# Altium integrated library ON Semi Peripheral Clock Generator.IntLib: 38 symbols
Pins are listed as number, name and electrical type; pins without a type are passive.

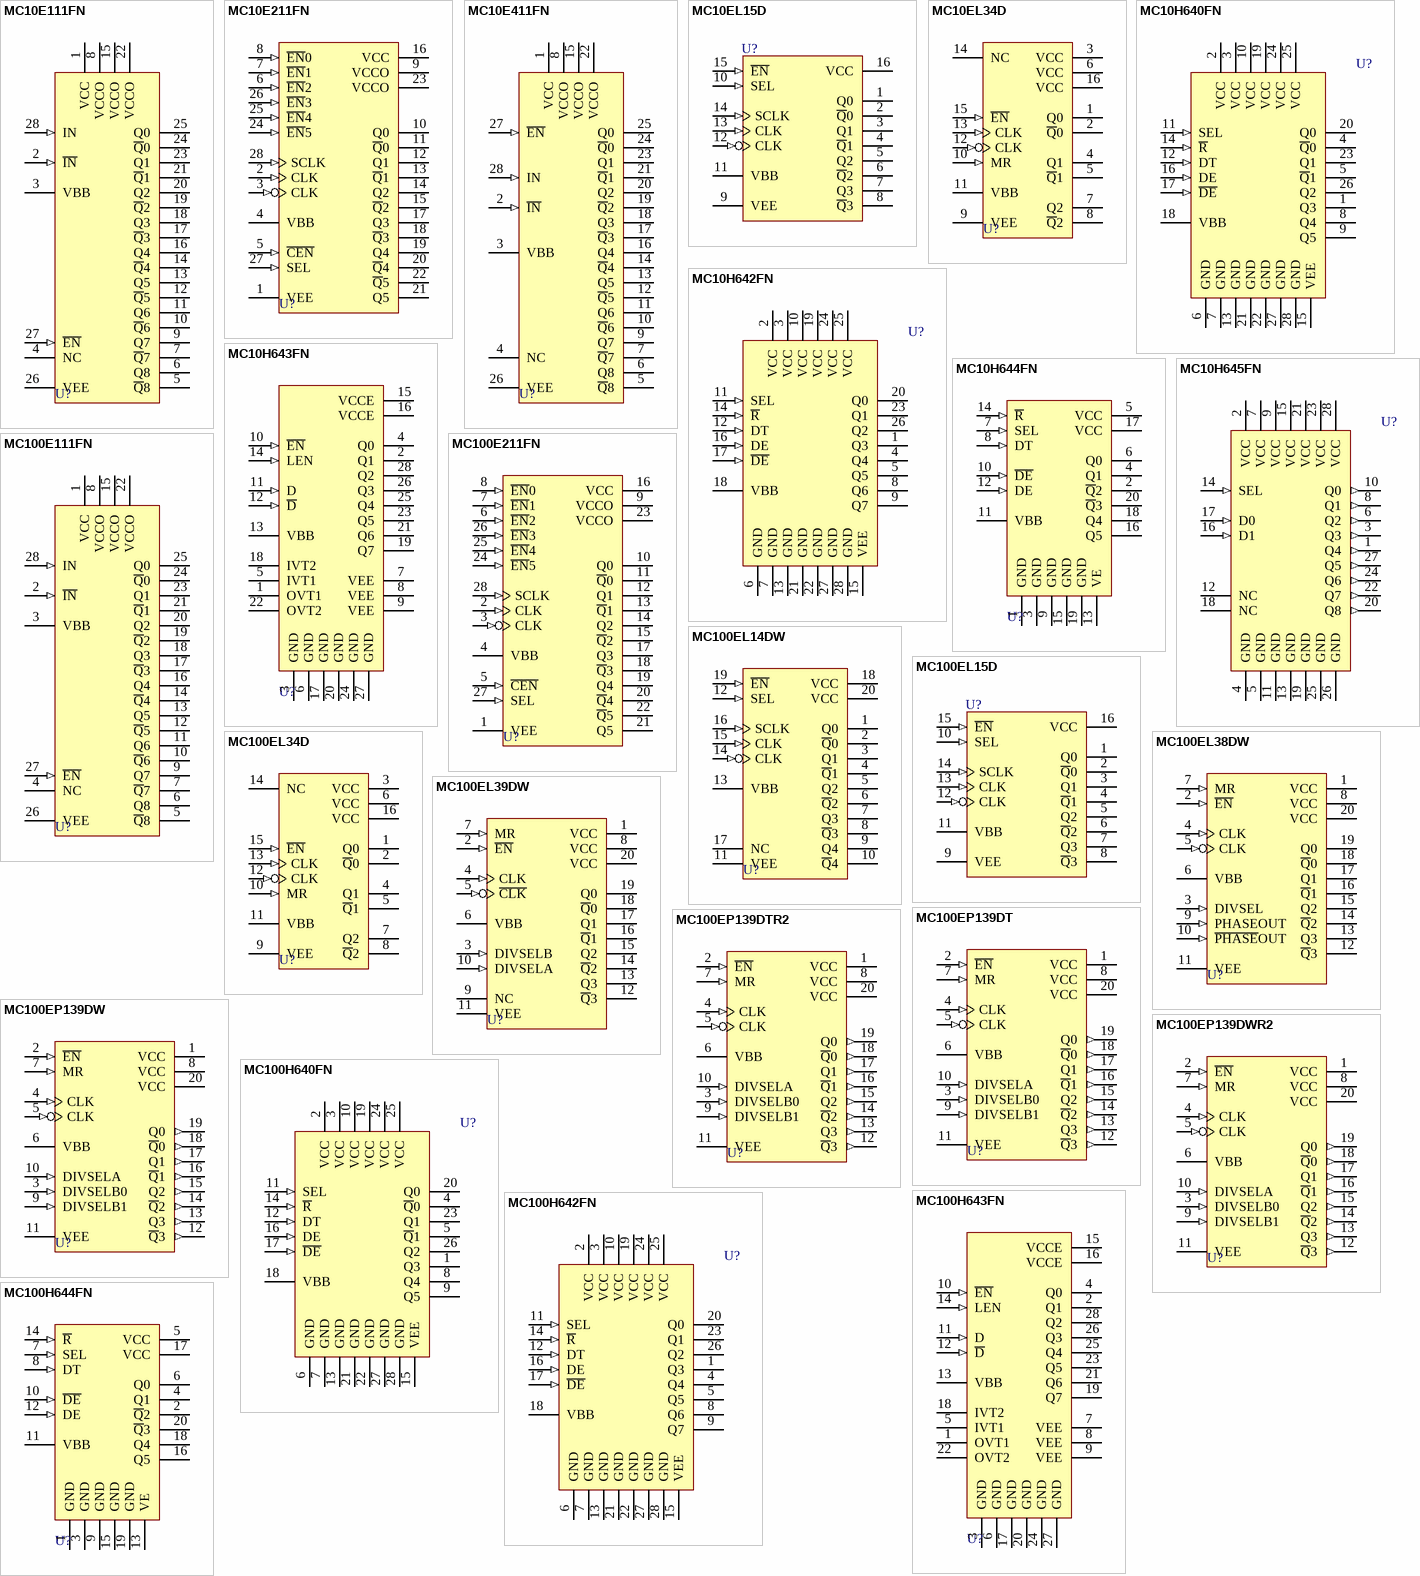
[diagram p0: symbols MC10E111FN to MC100H644FN]

## MC10E111FN
designator U?
1:9 Differential Clock Driver; Published: 15-Apr-2002; LatestRevisionDate: 13-Apr-2006; LatestRevisionNote: IPC-7351 Footprint Added.; DatasheetVersion: 1996; PackageVersion: Feb-2000; PackageReference: 776-02; Publisher: Altium Limited; PackageDescription: 28-Pin Leaded Chip Carrier 1.27 mm Pitch; ComponentLink1Description: Manufacturer Link; ComponentLink1URL: http://www.onsemi.com/; ComponentLink2Description: Datasheet; ComponentLink2URL: http://www.onsemi.com/pub/Collateral/MC10E111-D.PDF
footprint 776-02_N (Leaded Chip Carrier, 28-Leads, Body 11.5x11.5mm, Pitch 1.27mm, IPC Medium Density)
footprint 776-02_L (Leaded Chip Carrier, 28-Leads, Body 11.5x11.5mm, Pitch 1.27mm, IPC High Density)
footprint 776-02_M (Leaded Chip Carrier, 28-Leads, Body 11.5x11.5mm, Pitch 1.27mm, IPC Low Density)
pins: 1 VCC (power), 2 ~{IN} (in), 3 VBB (power), 4 NC, 5 ~{Q}8 (oe), 6 Q8 (oe), 7 ~{Q}7 (oe), 8 VCCO (power), 9 Q7 (oe), 10 ~{Q}6 (oe), 11 Q6 (oe), 12 ~{Q}5 (oe), 13 Q5 (oe), 14 ~{Q}4 (oe), 15 VCCO (power), 16 Q4 (oe), 17 ~{Q}3 (oe), 18 Q3 (oe), 19 ~{Q}2 (oe), 20 Q2 (oe), 21 ~{Q}1 (oe), 22 VCCO (power), 23 Q1 (oe), 24 ~{Q}0 (oe), 25 Q0 (oe), 26 VEE (power), 27 ~{EN} (in), 28 IN (in)

## MC10E211FN
designator U?
1:6 Differential Clock Distribution Chip; Published: 15-Apr-2002; LatestRevisionDate: 13-Apr-2006; LatestRevisionNote: IPC-7351 Footprint Added.; DatasheetVersion: 1996; PackageVersion: Feb-2000; PackageReference: 776-02; Publisher: Altium Limited; PackageDescription: 28-Pin Leaded Chip Carrier 1.27 mm Pitch; ComponentLink1Description: Manufacturer Link; ComponentLink1URL: http://www.onsemi.com/; ComponentLink2Description: Datasheet; ComponentLink2URL: http://www.onsemi.com/pub/Collateral/MC10E211-D.PDF
footprint 776-02_N (Leaded Chip Carrier, 28-Leads, Body 11.5x11.5mm, Pitch 1.27mm, IPC Medium Density)
footprint 776-02_L (Leaded Chip Carrier, 28-Leads, Body 11.5x11.5mm, Pitch 1.27mm, IPC High Density)
footprint 776-02_M (Leaded Chip Carrier, 28-Leads, Body 11.5x11.5mm, Pitch 1.27mm, IPC Low Density)
pins: 1 VEE (power), 2 CLK (in), 3 CLK (in), 4 VBB (power), 5 ~{CEN} (in), 6 ~{EN}2 (in), 7 ~{EN}1 (in), 8 ~{EN}0 (in), 9 VCCO (power), 10 Q0 (oe), 11 ~{Q}0 (oe), 12 Q1 (oe), 13 ~{Q}1 (oe), 14 Q2 (oe), 15 ~{Q}2 (oe), 16 VCC (power), 17 Q3 (oe), 18 ~{Q}3 (oe), 19 Q4 (oe), 20 ~{Q}4 (oe), 21 Q5 (oe), 22 ~{Q}5 (oe), 23 VCCO (power), 24 ~{EN}5 (in), 25 ~{EN}4 (in), 26 ~{EN}3 (in), 27 SEL (in), 28 SCLK (in)

## MC10E411FN
designator U?
5V ECL 1:9 Differential PECL/NECL RAMBus Clock Buffer; Published: 15-Apr-2002; LatestRevisionDate: 13-Apr-2006; LatestRevisionNote: IPC-7351 Footprint Added.; DatasheetVersion: Apr-2001; PackageVersion: Feb-2000; PackageReference: 776-02; Publisher: Altium Limited; PackageDescription: 28-Pin Leaded Chip Carrier 1.27 mm Pitch; ComponentLink1Description: Manufacturer Link; ComponentLink1URL: http://www.onsemi.com/; ComponentLink2Description: Datasheet; ComponentLink2URL: http://www.onsemi.com/pub/Collateral/MC10E411-D.PDF
footprint 776-02_N (Leaded Chip Carrier, 28-Leads, Body 11.5x11.5mm, Pitch 1.27mm, IPC Medium Density)
footprint 776-02_L (Leaded Chip Carrier, 28-Leads, Body 11.5x11.5mm, Pitch 1.27mm, IPC High Density)
footprint 776-02_M (Leaded Chip Carrier, 28-Leads, Body 11.5x11.5mm, Pitch 1.27mm, IPC Low Density)
pins: 1 VCC (power), 2 ~{IN} (in), 3 VBB (power), 4 NC, 5 ~{Q}8 (oe), 6 Q8 (oe), 7 ~{Q}7 (oe), 8 VCCO (power), 9 Q7 (oe), 10 ~{Q}6 (oe), 11 Q6 (oe), 12 ~{Q}5 (oe), 13 Q5 (oe), 14 ~{Q}4 (oe), 15 VCCO (power), 16 Q4 (oe), 17 ~{Q}3 (oe), 18 Q3 (oe), 19 ~{Q}2 (oe), 20 Q2 (oe), 21 ~{Q}1 (oe), 22 VCCO (power), 23 Q1 (oe), 24 ~{Q}0 (oe), 25 Q0 (oe), 26 VEE (power), 27 ~{EN} (in), 28 IN (in)

## MC10EL15D
designator U?
1:4 Clock Distribution Chip; Published: 15-Apr-2002; LatestRevisionDate: 13-Apr-2006; LatestRevisionNote: IPC-7351 Footprint Added.; DatasheetVersion: 1996; PackageVersion: Oct-1999; PackageReference: 751B-05; Publisher: Altium Limited; PackageDescription: 16-Pin Small Outline Integrated Circuit 1.27 mm Pitch; Code_JEDEC: MS-012-AC; Code_IPC: SOIC127P600-16; ComponentLink1Description: Manufacturer Link; ComponentLink1URL: http://www.onsemi.com/; ComponentLink2Description: Datasheet; ComponentLink2URL: http://www.onsemi.com/pub/Collateral/MC10EL15-D.PDF
footprint 751B-05_N (SOIC, 16-Leads, Body 9.9x3.9mm, Pitch 1.27mm, IPC Medium Density)
footprint 751B-05_L (SOIC, 16-Leads, Body 9.9x3.9mm, Pitch 1.27mm, IPC High Density)
footprint 751B-05_M (SOIC, 16-Leads, Body 9.9x3.9mm, Pitch 1.27mm, IPC Low Density)
pins: 1 Q0 (oe), 2 ~{Q}0 (oe), 3 Q1 (oe), 4 ~{Q}1 (oe), 5 Q2 (oe), 6 ~{Q}2 (oe), 7 Q3 (oe), 8 ~{Q}3 (oe), 9 VEE (power), 10 SEL (in), 11 VBB (power), 12 CLK (in), 13 CLK (in), 14 SCLK (in), 15 ~{EN} (in), 16 VCC (power)

## MC10EL34D
designator U?
Divide by 2,4,8 Clock Generation Chip; Published: 15-Apr-2002; LatestRevisionDate: 13-Apr-2006; LatestRevisionNote: IPC-7351 Footprint Added.; DatasheetVersion: 1996; PackageVersion: Oct-1999; PackageReference: 751B-05; Publisher: Altium Limited; PackageDescription: 16-Pin Small Outline Integrated Circuit 1.27 mm Pitch; Code_JEDEC: MS-012-AC; Code_IPC: SOIC127P600-16; ComponentLink1Description: Manufacturer Link; ComponentLink1URL: http://www.onsemi.com/; ComponentLink2Description: Datasheet; ComponentLink2URL: http://www.onsemi.com/pub/Collateral/MC10EL34-D.PDF
footprint 751B-05_N (SOIC, 16-Leads, Body 9.9x3.9mm, Pitch 1.27mm, IPC Medium Density)
footprint 751B-05_L (SOIC, 16-Leads, Body 9.9x3.9mm, Pitch 1.27mm, IPC High Density)
footprint 751B-05_M (SOIC, 16-Leads, Body 9.9x3.9mm, Pitch 1.27mm, IPC Low Density)
pins: 1 Q0 (oe), 2 ~{Q}0 (oe), 3 VCC (power), 4 Q1 (oe), 5 ~{Q}1 (oe), 6 VCC (power), 7 Q2 (oe), 8 ~{Q}2 (oe), 9 VEE (power), 10 MR (in), 11 VBB (power), 12 CLK (in), 13 CLK (in), 14 NC, 15 ~{EN} (in), 16 VCC (power)

## MC10H640FN
designator U?
PECL/TTL Clock Driver; Published: 15-Apr-2002; LatestRevisionDate: 13-Apr-2006; LatestRevisionNote: IPC-7351 Footprint Added.; DatasheetVersion: 1996; PackageVersion: Feb-2000; PackageReference: 776-02; Publisher: Altium Limited; PackageDescription: 28-Pin Leaded Chip Carrier 1.27 mm Pitch; ComponentLink1Description: Manufacturer Link; ComponentLink1URL: http://www.onsemi.com/; ComponentLink2Description: Datasheet; ComponentLink2URL: http://www.onsemi.com/pub/Collateral/MC10H640-D.PDF
footprint 776-02_N (Leaded Chip Carrier, 28-Leads, Body 11.5x11.5mm, Pitch 1.27mm, IPC Medium Density)
footprint 776-02_L (Leaded Chip Carrier, 28-Leads, Body 11.5x11.5mm, Pitch 1.27mm, IPC High Density)
footprint 776-02_M (Leaded Chip Carrier, 28-Leads, Body 11.5x11.5mm, Pitch 1.27mm, IPC Low Density)
pins: 1 Q3 (oe), 2 VCC (power), 3 VCC (power), 4 ~{Q}0 (oe), 5 ~{Q}1 (oe), 6 GND (power), 7 GND (power), 8 Q4 (oe), 9 Q5 (oe), 10 VCC (power), 11 SEL (in), 12 DT (in), 13 GND (power), 14 ~{R} (in), 15 VEE (power), 16 DE (in), 17 ~{DE} (in), 18 VBB (power), 19 VCC (power), 20 Q0 (oe), 21 GND (power), 22 GND (power), 23 Q1 (oe), 24 VCC (power), 25 VCC (power), 26 Q2 (oe), 27 GND (power), 28 GND (power)

## MC10H642FN
designator U?
PECL/TTL Clock Driver; Published: 15-Apr-2002; LatestRevisionDate: 13-Apr-2006; LatestRevisionNote: IPC-7351 Footprint Added.; DatasheetVersion: 1996; PackageVersion: Feb-2000; PackageReference: 776-02; Publisher: Altium Limited; PackageDescription: 28-Pin Leaded Chip Carrier 1.27 mm Pitch; ComponentLink1Description: Manufacturer Link; ComponentLink1URL: http://www.onsemi.com/; ComponentLink2Description: Datasheet; ComponentLink2URL: http://www.onsemi.com/pub/Collateral/MC10H642-D.PDF
footprint 776-02_N (Leaded Chip Carrier, 28-Leads, Body 11.5x11.5mm, Pitch 1.27mm, IPC Medium Density)
footprint 776-02_L (Leaded Chip Carrier, 28-Leads, Body 11.5x11.5mm, Pitch 1.27mm, IPC High Density)
footprint 776-02_M (Leaded Chip Carrier, 28-Leads, Body 11.5x11.5mm, Pitch 1.27mm, IPC Low Density)
pins: 1 Q3 (oe), 2 VCC (power), 3 VCC (power), 4 Q4 (oe), 5 Q5 (oe), 6 GND (power), 7 GND (power), 8 Q6 (oe), 9 Q7 (oe), 10 VCC (power), 11 SEL (in), 12 DT (in), 13 GND (power), 14 ~{R} (in), 15 VEE (power), 16 DE (in), 17 ~{DE} (in), 18 VBB (power), 19 VCC (power), 20 Q0 (oe), 21 GND (power), 22 GND (power), 23 Q1 (oe), 24 VCC (power), 25 VCC (power), 26 Q2 (oe), 27 GND (power), 28 GND (power)

## MC10H643FN
designator U?
Dual Supply ECL-TTL 1:8 Clock Driver; Published: 15-Apr-2002; LatestRevisionDate: 13-Apr-2006; LatestRevisionNote: IPC-7351 Footprint Added.; DatasheetVersion: 1996; PackageVersion: Feb-2000; PackageReference: 776-02; Publisher: Altium Limited; PackageDescription: 28-Pin Leaded Chip Carrier 1.27 mm Pitch; ComponentLink1Description: Manufacturer Link; ComponentLink1URL: http://www.onsemi.com/; ComponentLink2Description: Datasheet; ComponentLink2URL: http://www.onsemi.com/pub/Collateral/MC10H643-D.PDF
footprint 776-02_N (Leaded Chip Carrier, 28-Leads, Body 11.5x11.5mm, Pitch 1.27mm, IPC Medium Density)
footprint 776-02_L (Leaded Chip Carrier, 28-Leads, Body 11.5x11.5mm, Pitch 1.27mm, IPC High Density)
footprint 776-02_M (Leaded Chip Carrier, 28-Leads, Body 11.5x11.5mm, Pitch 1.27mm, IPC Low Density)
pins: 1 OVT1 (power), 2 Q1 (oe), 3 GND (power), 4 Q0 (oe), 5 IVT1 (power), 6 GND (power), 7 VEE (power), 8 VEE (power), 9 VEE (power), 10 ~{EN} (in), 11 D (in), 12 ~{D} (in), 13 VBB (power), 14 LEN (in), 15 VCCE (power), 16 VCCE (power), 17 GND (power), 18 IVT2 (power), 19 Q7 (oe), 20 GND (power), 21 Q6 (oe), 22 OVT2 (power), 23 Q5 (oe), 24 GND (power), 25 Q4 (oe), 26 Q3 (oe), 27 GND (power), 28 Q2 (oe)

## MC10H644FN
designator U?
PECL/TTL Clock Driver; ComponentAvailability: Not for New Design; Published: 15-Apr-2002; LatestRevisionDate: 13-Apr-2006; LatestRevisionNote: IPC-7351 Footprint Added.; DatasheetVersion: 1995; PackageVersion: 1996; PackageReference: 775-02; Publisher: Altium Limited; PackageDescription: 20-Pin Leaded Chip Carrier 1.27 mm Pitch; ComponentLink1Description: Manufacturer Link; ComponentLink1URL: http://www.onsemi.com/; ComponentLink2Description: Datasheet; ComponentLink2URL: http://www.onsemi.com/pub/Collateral/MC10H644-D.PDF
footprint 775-02_N (Leaded Chip Carrier, 20-Leads, Body 9x9mm, Pitch 1.27mm, IPC Medium Density)
footprint 775-02_L (Leaded Chip Carrier, 20-Leads, Body 9x9mm, Pitch 1.27mm, IPC High Density)
footprint 775-02_M (Leaded Chip Carrier, 20-Leads, Body 9x9mm, Pitch 1.27mm, IPC Low Density)
pins: 1 GND (power), 2 ~{Q}2 (oe), 3 GND (power), 4 Q1 (oe), 5 VCC (power), 6 Q0 (oe), 7 SEL (in), 8 DT (in), 9 GND (power), 10 ~{DE} (in), 11 VBB (power), 12 DE (in), 13 VE (power), 14 ~{R} (in), 15 GND (power), 16 Q5 (oe), 17 VCC (power), 18 Q4 (oe), 19 GND (power), 20 ~{Q}3 (oe)

## MC10H645FN
designator U?
1:9 TTL Clock Driver; Published: 15-Apr-2002; LatestRevisionDate: 13-Apr-2006; LatestRevisionNote: IPC-7351 Footprint Added.; DatasheetVersion: 1996; PackageVersion: Feb-2000; PackageReference: 776-02; Publisher: Altium Limited; PackageDescription: 28-Pin Leaded Chip Carrier 1.27 mm Pitch; ComponentLink1Description: Manufacturer Link; ComponentLink1URL: http://www.onsemi.com/; ComponentLink2Description: Datasheet; ComponentLink2URL: http://www.onsemi.com/pub/Collateral/MC10H645-D.PDF
footprint 776-02_N (Leaded Chip Carrier, 28-Leads, Body 11.5x11.5mm, Pitch 1.27mm, IPC Medium Density)
footprint 776-02_L (Leaded Chip Carrier, 28-Leads, Body 11.5x11.5mm, Pitch 1.27mm, IPC High Density)
footprint 776-02_M (Leaded Chip Carrier, 28-Leads, Body 11.5x11.5mm, Pitch 1.27mm, IPC Low Density)
pins: 1 Q4 (out), 2 VCC (power), 3 Q3 (out), 4 GND (power), 5 GND (power), 6 Q2 (out), 7 VCC (power), 8 Q1 (out), 9 VCC (power), 10 Q0 (out), 11 GND (power), 12 NC, 13 GND (power), 14 SEL (in), 15 VCC (power), 16 D1 (in), 17 D0 (in), 18 NC, 19 GND (power), 20 Q8 (out), 21 VCC (power), 22 Q7 (out), 23 VCC (power), 24 Q6 (out), 25 GND (power), 26 GND (power), 27 Q5 (out), 28 VCC (power)

## MC100E111FN
designator U?
1:9 Differential Clock Driver; Published: 15-Apr-2002; LatestRevisionDate: 13-Apr-2006; LatestRevisionNote: IPC-7351 Footprint Added.; DatasheetVersion: 1996; PackageVersion: Feb-2000; PackageReference: 776-02; Publisher: Altium Limited; PackageDescription: 28-Pin Leaded Chip Carrier 1.27 mm Pitch; ComponentLink1Description: Manufacturer Link; ComponentLink1URL: http://www.onsemi.com/; ComponentLink2Description: Datasheet; ComponentLink2URL: http://www.onsemi.com/pub/Collateral/MC10E111-D.PDF
footprint 776-02_N (Leaded Chip Carrier, 28-Leads, Body 11.5x11.5mm, Pitch 1.27mm, IPC Medium Density)
footprint 776-02_L (Leaded Chip Carrier, 28-Leads, Body 11.5x11.5mm, Pitch 1.27mm, IPC High Density)
footprint 776-02_M (Leaded Chip Carrier, 28-Leads, Body 11.5x11.5mm, Pitch 1.27mm, IPC Low Density)
pins: 1 VCC (power), 2 ~{IN} (in), 3 VBB (power), 4 NC, 5 ~{Q}8 (oe), 6 Q8 (oe), 7 ~{Q}7 (oe), 8 VCCO (power), 9 Q7 (oe), 10 ~{Q}6 (oe), 11 Q6 (oe), 12 ~{Q}5 (oe), 13 Q5 (oe), 14 ~{Q}4 (oe), 15 VCCO (power), 16 Q4 (oe), 17 ~{Q}3 (oe), 18 Q3 (oe), 19 ~{Q}2 (oe), 20 Q2 (oe), 21 ~{Q}1 (oe), 22 VCCO (power), 23 Q1 (oe), 24 ~{Q}0 (oe), 25 Q0 (oe), 26 VEE (power), 27 ~{EN} (in), 28 IN (in)

## MC100E211FN
designator U?
1:6 Differential Clock Distribution Chip; Published: 15-Apr-2002; LatestRevisionDate: 13-Apr-2006; LatestRevisionNote: IPC-7351 Footprint Added.; DatasheetVersion: 1996; PackageVersion: Feb-2000; PackageReference: 776-02; Publisher: Altium Limited; PackageDescription: 28-Pin Leaded Chip Carrier 1.27 mm Pitch; ComponentLink1Description: Manufacturer Link; ComponentLink1URL: http://www.onsemi.com/; ComponentLink2Description: Datasheet; ComponentLink2URL: http://www.onsemi.com/pub/Collateral/MC10E211-D.PDF
footprint 776-02_N (Leaded Chip Carrier, 28-Leads, Body 11.5x11.5mm, Pitch 1.27mm, IPC Medium Density)
footprint 776-02_L (Leaded Chip Carrier, 28-Leads, Body 11.5x11.5mm, Pitch 1.27mm, IPC High Density)
footprint 776-02_M (Leaded Chip Carrier, 28-Leads, Body 11.5x11.5mm, Pitch 1.27mm, IPC Low Density)
pins: 1 VEE (power), 2 CLK (in), 3 CLK (in), 4 VBB (power), 5 ~{CEN} (in), 6 ~{EN}2 (in), 7 ~{EN}1 (in), 8 ~{EN}0 (in), 9 VCCO (power), 10 Q0 (oe), 11 ~{Q}0 (oe), 12 Q1 (oe), 13 ~{Q}1 (oe), 14 Q2 (oe), 15 ~{Q}2 (oe), 16 VCC (power), 17 Q3 (oe), 18 ~{Q}3 (oe), 19 Q4 (oe), 20 ~{Q}4 (oe), 21 Q5 (oe), 22 ~{Q}5 (oe), 23 VCCO (power), 24 ~{EN}5 (in), 25 ~{EN}4 (in), 26 ~{EN}3 (in), 27 SEL (in), 28 SCLK (in)

## MC100EL14DW
designator U?
1:5 Clock Distribution Chip; Published: 15-Apr-2002; LatestRevisionDate: 13-Apr-2006; LatestRevisionNote: IPC-7351 Footprint Added.; DatasheetVersion: 1996; PackageReference: 751D-04; Publisher: Altium Limited; PackageDescription: 20-Pin Small Outline Integrated Circuit 1.27 mm Pitch; ComponentLink1Description: Manufacturer Link; ComponentLink1URL: http://www.onsemi.com/; ComponentLink2Description: Datasheet; ComponentLink2URL: http://www.onsemi.com/pub/Collateral/MC100EL14-D.PDF
footprint 751D-04_N (SOIC, 20-Leads, Body 12.8x7.5mm, Pitch 1.27mm, IPC Medium Density)
footprint 751D-04_L (SOIC, 20-Leads, Body 12.8x7.5mm, Pitch 1.27mm, IPC High Density)
footprint 751D-04_M (SOIC, 20-Leads, Body 12.8x7.5mm, Pitch 1.27mm, IPC Low Density)
pins: 1 Q0 (oe), 2 ~{Q}0 (oe), 3 Q1 (oe), 4 ~{Q}1 (oe), 5 Q2 (oe), 6 ~{Q}2 (oe), 7 Q3 (oe), 8 ~{Q}3 (oe), 9 Q4 (oe), 10 ~{Q}4 (oe), 11 VEE (power), 12 SEL (in), 13 VBB (power), 14 CLK (in), 15 CLK (in), 16 SCLK (in), 17 NC, 18 VCC (power), 19 ~{EN} (in), 20 VCC (power)

## MC100EL15D
designator U?
1:4 Clock Distribution Chip; Published: 15-Apr-2002; LatestRevisionDate: 13-Apr-2006; LatestRevisionNote: IPC-7351 Footprint Added.; DatasheetVersion: 1996; PackageVersion: Oct-1999; PackageReference: 751B-05; Publisher: Altium Limited; PackageDescription: 16-Pin Small Outline Integrated Circuit 1.27 mm Pitch; Code_JEDEC: MS-012-AC; Code_IPC: SOIC127P600-16; ComponentLink1Description: Manufacturer Link; ComponentLink1URL: http://www.onsemi.com/; ComponentLink2Description: Datasheet; ComponentLink2URL: http://www.onsemi.com/pub/Collateral/MC10EL15-D.PDF
footprint 751B-05_N (SOIC, 16-Leads, Body 9.9x3.9mm, Pitch 1.27mm, IPC Medium Density)
footprint 751B-05_L (SOIC, 16-Leads, Body 9.9x3.9mm, Pitch 1.27mm, IPC High Density)
footprint 751B-05_M (SOIC, 16-Leads, Body 9.9x3.9mm, Pitch 1.27mm, IPC Low Density)
pins: 1 Q0 (oe), 2 ~{Q}0 (oe), 3 Q1 (oe), 4 ~{Q}1 (oe), 5 Q2 (oe), 6 ~{Q}2 (oe), 7 Q3 (oe), 8 ~{Q}3 (oe), 9 VEE (power), 10 SEL (in), 11 VBB (power), 12 CLK (in), 13 CLK (in), 14 SCLK (in), 15 ~{EN} (in), 16 VCC (power)

## MC100EL34D
designator U?
Divide by 2,4,8 Clock Generation Chip; Published: 15-Apr-2002; LatestRevisionDate: 13-Apr-2006; LatestRevisionNote: IPC-7351 Footprint Added.; DatasheetVersion: 1996; PackageVersion: Oct-1999; PackageReference: 751B-05; Publisher: Altium Limited; PackageDescription: 16-Pin Small Outline Integrated Circuit 1.27 mm Pitch; Code_JEDEC: MS-012-AC; Code_IPC: SOIC127P600-16; ComponentLink1Description: Manufacturer Link; ComponentLink1URL: http://www.onsemi.com/; ComponentLink2Description: Datasheet; ComponentLink2URL: http://www.onsemi.com/pub/Collateral/MC10EL34-D.PDF
footprint 751B-05_N (SOIC, 16-Leads, Body 9.9x3.9mm, Pitch 1.27mm, IPC Medium Density)
footprint 751B-05_L (SOIC, 16-Leads, Body 9.9x3.9mm, Pitch 1.27mm, IPC High Density)
footprint 751B-05_M (SOIC, 16-Leads, Body 9.9x3.9mm, Pitch 1.27mm, IPC Low Density)
pins: 1 Q0 (oe), 2 ~{Q}0 (oe), 3 VCC (power), 4 Q1 (oe), 5 ~{Q}1 (oe), 6 VCC (power), 7 Q2 (oe), 8 ~{Q}2 (oe), 9 VEE (power), 10 MR (in), 11 VBB (power), 12 CLK (in), 13 CLK (in), 14 NC, 15 ~{EN} (in), 16 VCC (power)

## MC100EL38DW
designator U?
Divide-by-2, Divide-by-4/6 Clock Generation Chip; Published: 15-Apr-2002; LatestRevisionDate: 13-Apr-2006; LatestRevisionNote: IPC-7351 Footprint Added.; DatasheetVersion: 1996; PackageReference: 751D-04; Publisher: Altium Limited; PackageDescription: 20-Pin Small Outline Integrated Circuit 1.27 mm Pitch; ComponentLink1Description: Manufacturer Link; ComponentLink1URL: http://www.onsemi.com/; ComponentLink2Description: Datasheet; ComponentLink2URL: http://www.onsemi.com/pub/Collateral/MC100EL38-D.PDF
footprint 751D-04_N (SOIC, 20-Leads, Body 12.8x7.5mm, Pitch 1.27mm, IPC Medium Density)
footprint 751D-04_L (SOIC, 20-Leads, Body 12.8x7.5mm, Pitch 1.27mm, IPC High Density)
footprint 751D-04_M (SOIC, 20-Leads, Body 12.8x7.5mm, Pitch 1.27mm, IPC Low Density)
pins: 1 VCC (power), 2 ~{EN} (in), 3 DIVSEL (in), 4 CLK (in), 5 CLK (in), 6 VBB (power), 7 MR (in), 8 VCC (power), 9 PHASEOUT (in), 10 ~{PHASE}OUT (in), 11 VEE (power), 12 ~{Q}3 (oe), 13 Q3 (oe), 14 ~{Q}2 (oe), 15 Q2 (oe), 16 ~{Q}1 (oe), 17 Q1 (oe), 18 ~{Q}0 (oe), 19 Q0 (oe), 20 VCC (power)

## MC100EL39DW
designator U?
Divide-by-2/4, Divide-by-4/6 Clock Generation Chip; Published: 15-Apr-2002; LatestRevisionDate: 13-Apr-2006; LatestRevisionNote: IPC-7351 Footprint Added.; DatasheetVersion: 1996; PackageReference: 751D-04; Publisher: Altium Limited; PackageDescription: 20-Pin Small Outline Integrated Circuit 1.27 mm Pitch; ComponentLink1Description: Manufacturer Link; ComponentLink1URL: http://www.onsemi.com/; ComponentLink2Description: Datasheet; ComponentLink2URL: http://www.onsemi.com/pub/Collateral/MC100EL39-D.PDF
footprint 751D-04_N (SOIC, 20-Leads, Body 12.8x7.5mm, Pitch 1.27mm, IPC Medium Density)
footprint 751D-04_L (SOIC, 20-Leads, Body 12.8x7.5mm, Pitch 1.27mm, IPC High Density)
footprint 751D-04_M (SOIC, 20-Leads, Body 12.8x7.5mm, Pitch 1.27mm, IPC Low Density)
pins: 1 VCC (power), 2 ~{EN} (in), 3 DIVSELB (in), 4 CLK (in), 5 ~{CLK} (in), 6 VBB (power), 7 MR (in), 8 VCC (power), 9 NC, 10 DIVSELA (in), 11 VEE (power), 12 ~{Q}3 (oe), 13 Q3 (oe), 14 ~{Q}2 (oe), 15 Q2 (oe), 16 ~{Q}1 (oe), 17 Q1 (oe), 18 ~{Q}0 (oe), 19 Q0 (oe), 20 VCC (power)

## MC100EP139DT
designator U?
Divide-by-2/4, Divide-by-4/5/6 Clock Generation Chip; Published: 15-Apr-2002; LatestRevisionDate: 12-Dec-2006; LatestRevisionNote: IPC-7351 Footprint Added.; DatasheetVersion: Dec-1999; PackageVersion: Mar-2000; PackageReference: 948E-02; Publisher: Altium Limited; PackageDescription: 20-Pin Thin Small Outline Package 0.65 mm Pitch; ComponentLink1Description: Manufacturer Link; ComponentLink1URL: http://www.onsemi.com/; ComponentLink2Description: Datasheet; ComponentLink2URL: http://www.onsemi.com/pub/Collateral/MC10EP139-D.PDF
footprint 948E-02_N (TSOP, 20-Leads, Body 6.5x4.4mm, Pitch 0.65mm, IPC Medium Density)
footprint 948E-02_L (TSOP, 20-Leads, Body 6.5x4.4mm, Pitch 0.65mm, IPC High Density)
footprint 948E-02_M (TSOP, 20-Leads, Body 6.5x4.4mm, Pitch 0.65mm, IPC Low Density)
pins: 1 VCC (power), 2 ~{EN} (in), 3 DIVSELB0 (in), 4 CLK (in), 5 CLK (in), 6 VBB (power), 7 MR (in), 8 VCC (power), 9 DIVSELB1 (in), 10 DIVSELA (in), 11 VEE (power), 12 ~{Q}3 (out), 13 Q3 (out), 14 ~{Q}2 (out), 15 Q2 (out), 16 ~{Q}1 (out), 17 Q1 (out), 18 ~{Q}0 (out), 19 Q0 (out), 20 VCC (power)

## MC100EP139DTR2
designator U?
Divide-by-2/4, Divide-by-4/5/6 Clock Generation Chip; Published: 15-Apr-2002; LatestRevisionDate: 12-Dec-2006; LatestRevisionNote: IPC-7351 Footprint Added.; DatasheetVersion: Dec-1999; PackageVersion: Mar-2000; PackageReference: 948E-02; Publisher: Altium Limited; PackageDescription: 20-Pin Thin Small Outline Package 0.65 mm Pitch; ComponentLink1Description: Manufacturer Link; ComponentLink1URL: http://www.onsemi.com/; ComponentLink2Description: Datasheet; ComponentLink2URL: http://www.onsemi.com/pub/Collateral/MC10EP139-D.PDF
footprint 948E-02_N (TSOP, 20-Leads, Body 6.5x4.4mm, Pitch 0.65mm, IPC Medium Density)
footprint 948E-02_L (TSOP, 20-Leads, Body 6.5x4.4mm, Pitch 0.65mm, IPC High Density)
footprint 948E-02_M (TSOP, 20-Leads, Body 6.5x4.4mm, Pitch 0.65mm, IPC Low Density)
pins: 1 VCC (power), 2 ~{EN} (in), 3 DIVSELB0 (in), 4 CLK (in), 5 CLK (in), 6 VBB (power), 7 MR (in), 8 VCC (power), 9 DIVSELB1 (in), 10 DIVSELA (in), 11 VEE (power), 12 ~{Q}3 (out), 13 Q3 (out), 14 ~{Q}2 (out), 15 Q2 (out), 16 ~{Q}1 (out), 17 Q1 (out), 18 ~{Q}0 (out), 19 Q0 (out), 20 VCC (power)

## MC100EP139DW
designator U?
Divide-by-2/4, Divide-by-4/5/6 Clock Generation Chip; Published: 15-Apr-2002; LatestRevisionDate: 13-Apr-2006; LatestRevisionNote: IPC-7351 Footprint Added.; DatasheetVersion: Dec-1999; PackageReference: 751D-05; Publisher: Altium Limited; PackageDescription: 20-Pin Small Outline Integrated Circuit 1.27 mm Pitch; ComponentLink1Description: Manufacturer Link; ComponentLink1URL: http://www.onsemi.com/; ComponentLink2Description: Datasheet; ComponentLink2URL: http://www.onsemi.com/pub/Collateral/MC10EP139-D.PDF
footprint 751D-05_N (SOIC, 20-Leads, Body 12.8x7.5mm, Pitch 1.27mm, IPC Medium Density)
footprint 751D-05_L (SOIC, 20-Leads, Body 12.8x7.5mm, Pitch 1.27mm, IPC High Density)
footprint 751D-05_M (SOIC, 20-Leads, Body 12.8x7.5mm, Pitch 1.27mm, IPC Low Density)
pins: 1 VCC (power), 2 ~{EN} (in), 3 DIVSELB0 (in), 4 CLK (in), 5 CLK (in), 6 VBB (power), 7 MR (in), 8 VCC (power), 9 DIVSELB1 (in), 10 DIVSELA (in), 11 VEE (power), 12 ~{Q}3 (out), 13 Q3 (out), 14 ~{Q}2 (out), 15 Q2 (out), 16 ~{Q}1 (out), 17 Q1 (out), 18 ~{Q}0 (out), 19 Q0 (out), 20 VCC (power)

## MC100EP139DWR2
designator U?
Divide-by-2/4, Divide-by-4/5/6 Clock Generation Chip; Published: 15-Apr-2002; LatestRevisionDate: 13-Apr-2006; LatestRevisionNote: IPC-7351 Footprint Added.; DatasheetVersion: Dec-1999; PackageReference: 751D-05; Publisher: Altium Limited; PackageDescription: 20-Pin Small Outline Integrated Circuit 1.27 mm Pitch; ComponentLink1Description: Manufacturer Link; ComponentLink1URL: http://www.onsemi.com/; ComponentLink2Description: Datasheet; ComponentLink2URL: http://www.onsemi.com/pub/Collateral/MC10EP139-D.PDF
footprint 751D-05_N (SOIC, 20-Leads, Body 12.8x7.5mm, Pitch 1.27mm, IPC Medium Density)
footprint 751D-05_L (SOIC, 20-Leads, Body 12.8x7.5mm, Pitch 1.27mm, IPC High Density)
footprint 751D-05_M (SOIC, 20-Leads, Body 12.8x7.5mm, Pitch 1.27mm, IPC Low Density)
pins: 1 VCC (power), 2 ~{EN} (in), 3 DIVSELB0 (in), 4 CLK (in), 5 CLK (in), 6 VBB (power), 7 MR (in), 8 VCC (power), 9 DIVSELB1 (in), 10 DIVSELA (in), 11 VEE (power), 12 ~{Q}3 (out), 13 Q3 (out), 14 ~{Q}2 (out), 15 Q2 (out), 16 ~{Q}1 (out), 17 Q1 (out), 18 ~{Q}0 (out), 19 Q0 (out), 20 VCC (power)

## MC100H640FN
designator U?
PECL/TTL Clock Driver; Published: 15-Apr-2002; LatestRevisionDate: 13-Apr-2006; LatestRevisionNote: IPC-7351 Footprint Added.; DatasheetVersion: 1996; PackageVersion: Feb-2000; PackageReference: 776-02; Publisher: Altium Limited; PackageDescription: 28-Pin Leaded Chip Carrier 1.27 mm Pitch; ComponentLink1Description: Manufacturer Link; ComponentLink1URL: http://www.onsemi.com/; ComponentLink2Description: Datasheet; ComponentLink2URL: http://www.onsemi.com/pub/Collateral/MC10H640-D.PDF
footprint 776-02_N (Leaded Chip Carrier, 28-Leads, Body 11.5x11.5mm, Pitch 1.27mm, IPC Medium Density)
footprint 776-02_L (Leaded Chip Carrier, 28-Leads, Body 11.5x11.5mm, Pitch 1.27mm, IPC High Density)
footprint 776-02_M (Leaded Chip Carrier, 28-Leads, Body 11.5x11.5mm, Pitch 1.27mm, IPC Low Density)
pins: 1 Q3 (oe), 2 VCC (power), 3 VCC (power), 4 ~{Q}0 (oe), 5 ~{Q}1 (oe), 6 GND (power), 7 GND (power), 8 Q4 (oe), 9 Q5 (oe), 10 VCC (power), 11 SEL (in), 12 DT (in), 13 GND (power), 14 ~{R} (in), 15 VEE (power), 16 DE (in), 17 ~{DE} (in), 18 VBB (power), 19 VCC (power), 20 Q0 (oe), 21 GND (power), 22 GND (power), 23 Q1 (oe), 24 VCC (power), 25 VCC (power), 26 Q2 (oe), 27 GND (power), 28 GND (power)

## MC100H642FN
designator U?
PECL/TTL Clock Driver; Published: 15-Apr-2002; LatestRevisionDate: 13-Apr-2006; LatestRevisionNote: IPC-7351 Footprint Added.; DatasheetVersion: 1996; PackageVersion: Feb-2000; PackageReference: 776-02; Publisher: Altium Limited; PackageDescription: 28-Pin Leaded Chip Carrier 1.27 mm Pitch; ComponentLink1Description: Manufacturer Link; ComponentLink1URL: http://www.onsemi.com/; ComponentLink2Description: Datasheet; ComponentLink2URL: http://www.onsemi.com/pub/Collateral/MC10H642-D.PDF
footprint 776-02_N (Leaded Chip Carrier, 28-Leads, Body 11.5x11.5mm, Pitch 1.27mm, IPC Medium Density)
footprint 776-02_L (Leaded Chip Carrier, 28-Leads, Body 11.5x11.5mm, Pitch 1.27mm, IPC High Density)
footprint 776-02_M (Leaded Chip Carrier, 28-Leads, Body 11.5x11.5mm, Pitch 1.27mm, IPC Low Density)
pins: 1 Q3 (oe), 2 VCC (power), 3 VCC (power), 4 Q4 (oe), 5 Q5 (oe), 6 GND (power), 7 GND (power), 8 Q6 (oe), 9 Q7 (oe), 10 VCC (power), 11 SEL (in), 12 DT (in), 13 GND (power), 14 ~{R} (in), 15 VEE (power), 16 DE (in), 17 ~{DE} (in), 18 VBB (power), 19 VCC (power), 20 Q0 (oe), 21 GND (power), 22 GND (power), 23 Q1 (oe), 24 VCC (power), 25 VCC (power), 26 Q2 (oe), 27 GND (power), 28 GND (power)

## MC100H643FN
designator U?
Dual Supply ECL-TTL 1:8 Clock Driver; Published: 15-Apr-2002; LatestRevisionDate: 13-Apr-2006; LatestRevisionNote: IPC-7351 Footprint Added.; DatasheetVersion: 1996; PackageVersion: Feb-2000; PackageReference: 776-02; Publisher: Altium Limited; PackageDescription: 28-Pin Leaded Chip Carrier 1.27 mm Pitch; ComponentLink1Description: Manufacturer Link; ComponentLink1URL: http://www.onsemi.com/; ComponentLink2Description: Datasheet; ComponentLink2URL: http://www.onsemi.com/pub/Collateral/MC10H643-D.PDF
footprint 776-02_N (Leaded Chip Carrier, 28-Leads, Body 11.5x11.5mm, Pitch 1.27mm, IPC Medium Density)
footprint 776-02_L (Leaded Chip Carrier, 28-Leads, Body 11.5x11.5mm, Pitch 1.27mm, IPC High Density)
footprint 776-02_M (Leaded Chip Carrier, 28-Leads, Body 11.5x11.5mm, Pitch 1.27mm, IPC Low Density)
pins: 1 OVT1 (power), 2 Q1 (oe), 3 GND (power), 4 Q0 (oe), 5 IVT1 (power), 6 GND (power), 7 VEE (power), 8 VEE (power), 9 VEE (power), 10 ~{EN} (in), 11 D (in), 12 ~{D} (in), 13 VBB (power), 14 LEN (in), 15 VCCE (power), 16 VCCE (power), 17 GND (power), 18 IVT2 (power), 19 Q7 (oe), 20 GND (power), 21 Q6 (oe), 22 OVT2 (power), 23 Q5 (oe), 24 GND (power), 25 Q4 (oe), 26 Q3 (oe), 27 GND (power), 28 Q2 (oe)

## MC100H644FN
designator U?
PECL/TTL Clock Driver; ComponentAvailability: Not for New Design; Published: 15-Apr-2002; LatestRevisionDate: 13-Apr-2006; LatestRevisionNote: IPC-7351 Footprint Added.; DatasheetVersion: 1995; PackageVersion: 1996; PackageReference: 775-02; Publisher: Altium Limited; PackageDescription: 20-Pin Leaded Chip Carrier 1.27 mm Pitch; ComponentLink1Description: Manufacturer Link; ComponentLink1URL: http://www.onsemi.com/; ComponentLink2Description: Datasheet; ComponentLink2URL: http://www.onsemi.com/pub/Collateral/MC10H644-D.PDF
footprint 775-02_N (Leaded Chip Carrier, 20-Leads, Body 9x9mm, Pitch 1.27mm, IPC Medium Density)
footprint 775-02_L (Leaded Chip Carrier, 20-Leads, Body 9x9mm, Pitch 1.27mm, IPC High Density)
footprint 775-02_M (Leaded Chip Carrier, 20-Leads, Body 9x9mm, Pitch 1.27mm, IPC Low Density)
pins: 1 GND (power), 2 ~{Q}2 (oe), 3 GND (power), 4 Q1 (oe), 5 VCC (power), 6 Q0 (oe), 7 SEL (in), 8 DT (in), 9 GND (power), 10 ~{DE} (in), 11 VBB (power), 12 DE (in), 13 VE (power), 14 ~{R} (in), 15 GND (power), 16 Q5 (oe), 17 VCC (power), 18 Q4 (oe), 19 GND (power), 20 ~{Q}3 (oe)

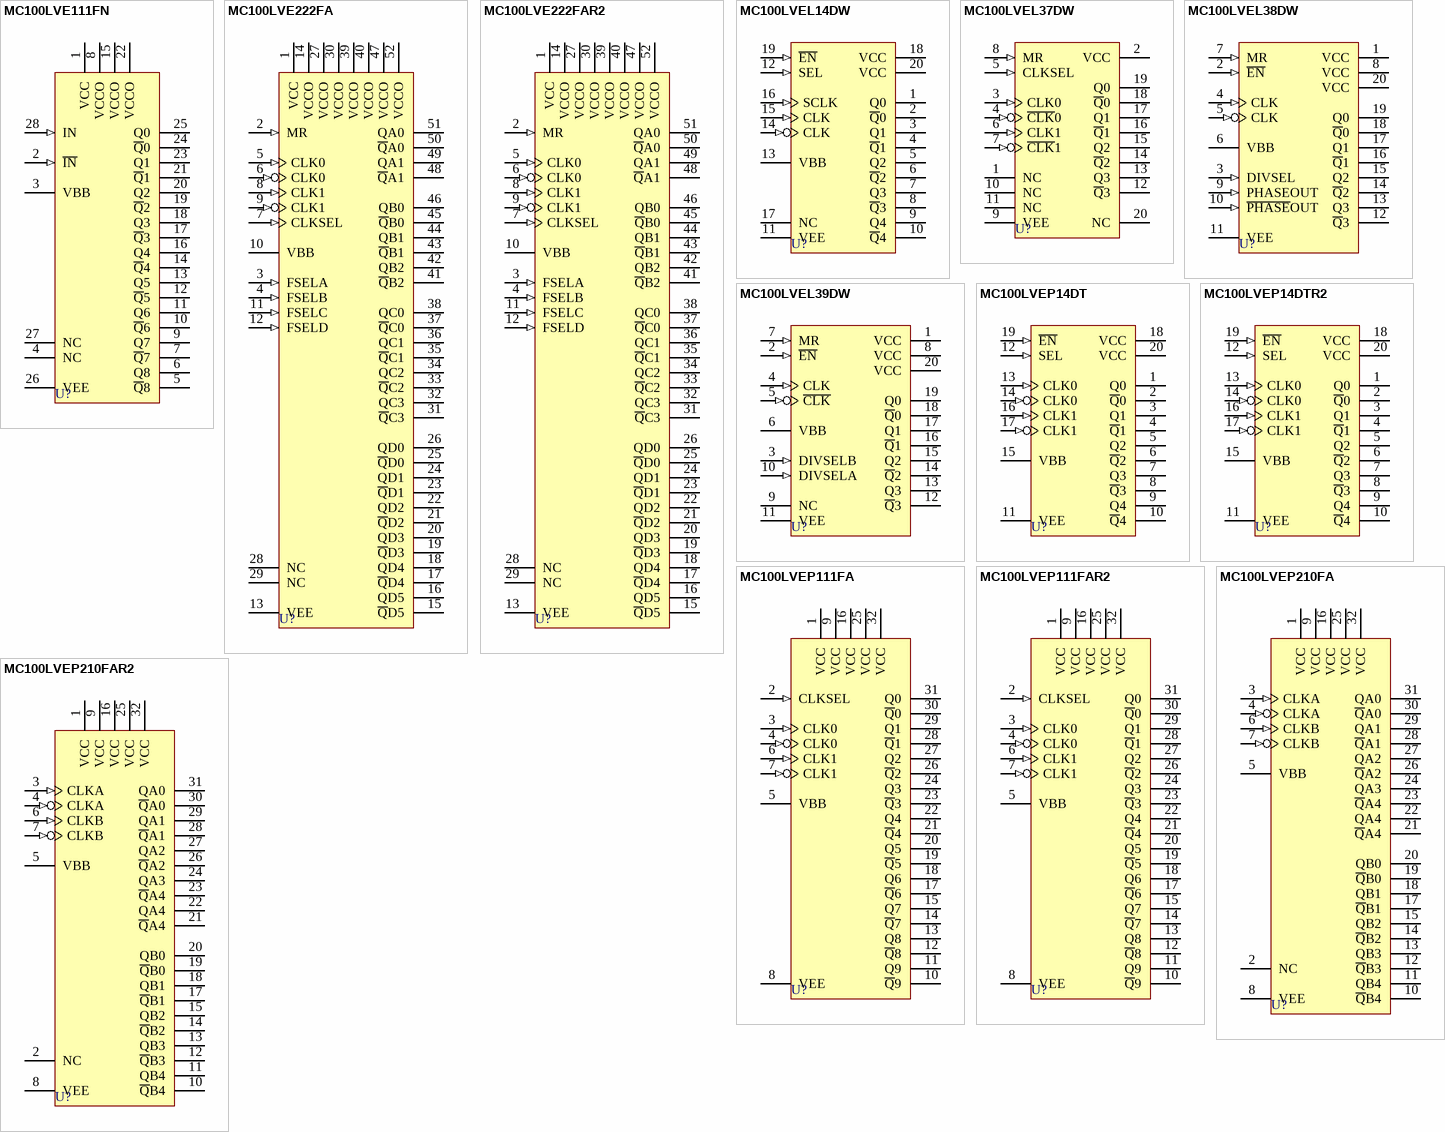
[diagram p1: symbols MC100LVE111FN to MC100LVEP210FAR2]

## MC100LVE111FN
designator U?
Low-Voltage 1:9 Differential ECL/PECL Clock Driver; Published: 15-Apr-2002; LatestRevisionDate: 13-Apr-2006; LatestRevisionNote: IPC-7351 Footprint Added.; DatasheetVersion: 1996; PackageVersion: Feb-2000; PackageReference: 776-02; Publisher: Altium Limited; PackageDescription: 28-Pin Leaded Chip Carrier 1.27 mm Pitch; ComponentLink1Description: Manufacturer Link; ComponentLink1URL: http://www.onsemi.com/; ComponentLink2Description: Datasheet; ComponentLink2URL: http://www.onsemi.com/pub/Collateral/MC100LVE111-D.PDF
footprint 776-02_N (Leaded Chip Carrier, 28-Leads, Body 11.5x11.5mm, Pitch 1.27mm, IPC Medium Density)
footprint 776-02_L (Leaded Chip Carrier, 28-Leads, Body 11.5x11.5mm, Pitch 1.27mm, IPC High Density)
footprint 776-02_M (Leaded Chip Carrier, 28-Leads, Body 11.5x11.5mm, Pitch 1.27mm, IPC Low Density)
pins: 1 VCC (power), 2 ~{IN} (in), 3 VBB (power), 4 NC, 5 ~{Q}8 (oe), 6 Q8 (oe), 7 ~{Q}7 (oe), 8 VCCO (power), 9 Q7 (oe), 10 ~{Q}6 (oe), 11 Q6 (oe), 12 ~{Q}5 (oe), 13 Q5 (oe), 14 ~{Q}4 (oe), 15 VCCO (power), 16 Q4 (oe), 17 ~{Q}3 (oe), 18 Q3 (oe), 19 ~{Q}2 (oe), 20 Q2 (oe), 21 ~{Q}1 (oe), 22 VCCO (power), 23 Q1 (oe), 24 ~{Q}0 (oe), 25 Q0 (oe), 26 VEE (power), 27 NC, 28 IN (in)

## MC100LVE222FA
designator U?
Low-Voltage 1:15 Differential Divide-by-1/Divide-by-2 ECL/PECL Clock Driver; Published: 15-Apr-2002; LatestRevisionDate: 13-Apr-2006; LatestRevisionNote: IPC-7351 Footprint Added.; DatasheetVersion: Feb-2000; PackageVersion: Feb-2000; PackageReference: 848D-03; Publisher: Altium Limited; PackageDescription: 52-Pin Quad Flat Pack 0.65 mm Pitch; ComponentLink1Description: Manufacturer Link; ComponentLink1URL: http://www.onsemi.com/; ComponentLink2Description: Datasheet; ComponentLink2URL: http://www.onsemi.com/pub/Collateral/MC100LVE222-D.PDF
footprint 848D-03_N (QFP, 52-Leads, Body 10 x 10mm, Pitch 0.65mm, IPC Medium Density)
footprint 848D-03_L (QFP, 52-Leads, Body 10 x 10mm, Pitch 0.65mm, IPC High Density)
footprint 848D-03_M (QFP, 52-Leads, Body 10 x 10mm, Pitch 0.65mm, IPC Low Density)
pins: 1 VCC (power), 2 MR (in), 3 FSELA (in), 4 FSELB (in), 5 CLK0 (in), 6 CLK0 (in), 7 CLKSEL (in), 8 CLK1 (in), 9 CLK1 (in), 10 VBB (power), 11 FSELC (in), 12 FSELD (in), 13 VEE (power), 14 VCCO (power), 15 ~{Q}D5 (oe), 16 QD5 (oe), 17 ~{Q}D4 (oe), 18 QD4 (oe), 19 ~{Q}D3 (oe), 20 QD3 (oe), 21 ~{Q}D2 (oe), 22 QD2 (oe), 23 ~{Q}D1 (oe), 24 QD1 (oe), 25 ~{Q}D0 (oe), 26 QD0 (oe), 27 VCCO (power), 28 NC, 29 NC, 30 VCCO (power), 31 ~{Q}C3 (oe), 32 QC3 (oe), 33 ~{Q}C2 (oe), 34 QC2 (oe), 35 ~{Q}C1 (oe), 36 QC1 (oe), 37 ~{Q}C0 (oe), 38 QC0 (oe), 39 VCCO (power), 40 VCCO (power), 41 ~{Q}B2 (oe), 42 QB2 (oe), 43 ~{Q}B1 (oe), 44 QB1 (oe), 45 ~{Q}B0 (oe), 46 QB0 (oe), 47 VCCO (power), 48 ~{Q}A1 (oe), 49 QA1 (oe), 50 ~{Q}A0 (oe), 51 QA0 (oe), 52 VCCO (power)

## MC100LVE222FAR2
designator U?
Low-Voltage 1:15 Differential Divide-by-1/Divide-by-2 ECL/PECL Clock Driver; Published: 15-Apr-2002; LatestRevisionDate: 13-Apr-2006; LatestRevisionNote: IPC-7351 Footprint Added.; DatasheetVersion: Feb-2000; PackageVersion: Feb-2000; PackageReference: 848D-03; Publisher: Altium Limited; PackageDescription: 52-Pin Quad Flat Pack 0.65 mm Pitch; ComponentLink1Description: Manufacturer Link; ComponentLink1URL: http://www.onsemi.com/; ComponentLink2Description: Datasheet; ComponentLink2URL: http://www.onsemi.com/pub/Collateral/MC100LVE222-D.PDF
footprint 848D-03_N (QFP, 52-Leads, Body 10 x 10mm, Pitch 0.65mm, IPC Medium Density)
footprint 848D-03_L (QFP, 52-Leads, Body 10 x 10mm, Pitch 0.65mm, IPC High Density)
footprint 848D-03_M (QFP, 52-Leads, Body 10 x 10mm, Pitch 0.65mm, IPC Low Density)
pins: 1 VCC (power), 2 MR (in), 3 FSELA (in), 4 FSELB (in), 5 CLK0 (in), 6 CLK0 (in), 7 CLKSEL (in), 8 CLK1 (in), 9 CLK1 (in), 10 VBB (power), 11 FSELC (in), 12 FSELD (in), 13 VEE (power), 14 VCCO (power), 15 ~{Q}D5 (oe), 16 QD5 (oe), 17 ~{Q}D4 (oe), 18 QD4 (oe), 19 ~{Q}D3 (oe), 20 QD3 (oe), 21 ~{Q}D2 (oe), 22 QD2 (oe), 23 ~{Q}D1 (oe), 24 QD1 (oe), 25 ~{Q}D0 (oe), 26 QD0 (oe), 27 VCCO (power), 28 NC, 29 NC, 30 VCCO (power), 31 ~{Q}C3 (oe), 32 QC3 (oe), 33 ~{Q}C2 (oe), 34 QC2 (oe), 35 ~{Q}C1 (oe), 36 QC1 (oe), 37 ~{Q}C0 (oe), 38 QC0 (oe), 39 VCCO (power), 40 VCCO (power), 41 ~{Q}B2 (oe), 42 QB2 (oe), 43 ~{Q}B1 (oe), 44 QB1 (oe), 45 ~{Q}B0 (oe), 46 QB0 (oe), 47 VCCO (power), 48 ~{Q}A1 (oe), 49 QA1 (oe), 50 ~{Q}A0 (oe), 51 QA0 (oe), 52 VCCO (power)

## MC100LVEL14DW
designator U?
1:5 Clock Distribution Chip; Published: 15-Apr-2002; LatestRevisionDate: 13-Apr-2006; LatestRevisionNote: IPC-7351 Footprint Added.; DatasheetVersion: 1996; PackageReference: 751D-04; Publisher: Altium Limited; PackageDescription: 20-Pin Small Outline Integrated Circuit 1.27 mm Pitch; ComponentLink1Description: Manufacturer Link; ComponentLink1URL: http://www.onsemi.com/; ComponentLink2Description: Datasheet; ComponentLink2URL: http://www.onsemi.com/pub/Collateral/MC100EL14-D.PDF
footprint 751D-04_N (SOIC, 20-Leads, Body 12.8x7.5mm, Pitch 1.27mm, IPC Medium Density)
footprint 751D-04_L (SOIC, 20-Leads, Body 12.8x7.5mm, Pitch 1.27mm, IPC High Density)
footprint 751D-04_M (SOIC, 20-Leads, Body 12.8x7.5mm, Pitch 1.27mm, IPC Low Density)
pins: 1 Q0 (oe), 2 ~{Q}0 (oe), 3 Q1 (oe), 4 ~{Q}1 (oe), 5 Q2 (oe), 6 ~{Q}2 (oe), 7 Q3 (oe), 8 ~{Q}3 (oe), 9 Q4 (oe), 10 ~{Q}4 (oe), 11 VEE (power), 12 SEL (in), 13 VBB (power), 14 CLK (in), 15 CLK (in), 16 SCLK (in), 17 NC, 18 VCC (power), 19 ~{EN} (in), 20 VCC (power)

## MC100LVEL37DW
designator U?
1:4 Divide-by-1/Divide-by-2 ECL/PECL Clock Fanout Buffer; Published: 15-Apr-2002; LatestRevisionDate: 13-Apr-2006; LatestRevisionNote: IPC-7351 Footprint Added.; DatasheetVersion: 1997; PackageReference: 751D-04; Publisher: Altium Limited; PackageDescription: 20-Pin Small Outline Integrated Circuit 1.27 mm Pitch; ComponentLink1Description: Manufacturer Link; ComponentLink1URL: http://www.onsemi.com/; ComponentLink2Description: Datasheet; ComponentLink2URL: http://www.onsemi.com/pub/Collateral/MC100LVEL37-D.PDF
footprint 751D-04_N (SOIC, 20-Leads, Body 12.8x7.5mm, Pitch 1.27mm, IPC Medium Density)
footprint 751D-04_L (SOIC, 20-Leads, Body 12.8x7.5mm, Pitch 1.27mm, IPC High Density)
footprint 751D-04_M (SOIC, 20-Leads, Body 12.8x7.5mm, Pitch 1.27mm, IPC Low Density)
pins: 1 NC, 2 VCC (power), 3 CLK0 (in), 4 ~{CLK}0 (in), 5 CLKSEL (in), 6 CLK1 (in), 7 ~{CLK}1 (in), 8 MR (in), 9 VEE (power), 10 NC, 11 NC, 12 ~{Q}3 (oe), 13 Q3 (oe), 14 ~{Q}2 (oe), 15 Q2 (oe), 16 ~{Q}1 (oe), 17 Q1 (oe), 18 ~{Q}0 (oe), 19 Q0 (oe), 20 NC

## MC100LVEL38DW
designator U?
Divide-by-2, Divide-by-4/6 Clock Generation Chip; Published: 15-Apr-2002; LatestRevisionDate: 13-Apr-2006; LatestRevisionNote: IPC-7351 Footprint Added.; DatasheetVersion: 1996; PackageReference: 751D-04; Publisher: Altium Limited; PackageDescription: 20-Pin Small Outline Integrated Circuit 1.27 mm Pitch; ComponentLink1Description: Manufacturer Link; ComponentLink1URL: http://www.onsemi.com/; ComponentLink2Description: Datasheet; ComponentLink2URL: http://www.onsemi.com/pub/Collateral/MC100EL38-D.PDF
footprint 751D-04_N (SOIC, 20-Leads, Body 12.8x7.5mm, Pitch 1.27mm, IPC Medium Density)
footprint 751D-04_L (SOIC, 20-Leads, Body 12.8x7.5mm, Pitch 1.27mm, IPC High Density)
footprint 751D-04_M (SOIC, 20-Leads, Body 12.8x7.5mm, Pitch 1.27mm, IPC Low Density)
pins: 1 VCC (power), 2 ~{EN} (in), 3 DIVSEL (in), 4 CLK (in), 5 CLK (in), 6 VBB (power), 7 MR (in), 8 VCC (power), 9 PHASEOUT (in), 10 ~{PHASE}OUT (in), 11 VEE (power), 12 ~{Q}3 (oe), 13 Q3 (oe), 14 ~{Q}2 (oe), 15 Q2 (oe), 16 ~{Q}1 (oe), 17 Q1 (oe), 18 ~{Q}0 (oe), 19 Q0 (oe), 20 VCC (power)

## MC100LVEL39DW
designator U?
Divide-by-2/4, Divide-by-4/6 Clock Generation Chip; Published: 15-Apr-2002; LatestRevisionDate: 13-Apr-2006; LatestRevisionNote: IPC-7351 Footprint Added.; DatasheetVersion: 1996; PackageReference: 751D-04; Publisher: Altium Limited; PackageDescription: 20-Pin Small Outline Integrated Circuit 1.27 mm Pitch; ComponentLink1Description: Manufacturer Link; ComponentLink1URL: http://www.onsemi.com/; ComponentLink2Description: Datasheet; ComponentLink2URL: http://www.onsemi.com/pub/Collateral/MC100EL39-D.PDF
footprint 751D-04_N (SOIC, 20-Leads, Body 12.8x7.5mm, Pitch 1.27mm, IPC Medium Density)
footprint 751D-04_L (SOIC, 20-Leads, Body 12.8x7.5mm, Pitch 1.27mm, IPC High Density)
footprint 751D-04_M (SOIC, 20-Leads, Body 12.8x7.5mm, Pitch 1.27mm, IPC Low Density)
pins: 1 VCC (power), 2 ~{EN} (in), 3 DIVSELB (in), 4 CLK (in), 5 ~{CLK} (in), 6 VBB (power), 7 MR (in), 8 VCC (power), 9 NC, 10 DIVSELA (in), 11 VEE (power), 12 ~{Q}3 (oe), 13 Q3 (oe), 14 ~{Q}2 (oe), 15 Q2 (oe), 16 ~{Q}1 (oe), 17 Q1 (oe), 18 ~{Q}0 (oe), 19 Q0 (oe), 20 VCC (power)

## MC100LVEP14DT
designator U?
Low-Voltage 1:5 Differential LVECL/LVPECL/LVEPECL/HSTL Clock Driver; Published: 15-Apr-2002; LatestRevisionDate: 12-Dec-2006; LatestRevisionNote: IPC-7351 Footprint Added.; DatasheetVersion: Jan-2000; PackageVersion: Mar-2000; PackageReference: 948E-02; Publisher: Altium Limited; PackageDescription: 20-Pin Thin Small Outline Package 0.65 mm Pitch; ComponentLink1Description: Manufacturer Link; ComponentLink1URL: http://www.onsemi.com/; ComponentLink2Description: Datasheet; ComponentLink2URL: http://www.onsemi.com/pub/Collateral/MC100LVEP14-D.PDF
footprint 948E-02_N (TSOP, 20-Leads, Body 6.5x4.4mm, Pitch 0.65mm, IPC Medium Density)
footprint 948E-02_L (TSOP, 20-Leads, Body 6.5x4.4mm, Pitch 0.65mm, IPC High Density)
footprint 948E-02_M (TSOP, 20-Leads, Body 6.5x4.4mm, Pitch 0.65mm, IPC Low Density)
pins: 1 Q0 (oe), 2 ~{Q}0 (oe), 3 Q1 (oe), 4 ~{Q}1 (oe), 5 Q2 (oe), 6 ~{Q}2 (oe), 7 Q3 (oe), 8 ~{Q}3 (oe), 9 Q4 (oe), 10 ~{Q}4 (oe), 11 VEE (power), 12 SEL (in), 13 CLK0 (in), 14 CLK0 (in), 15 VBB (power), 16 CLK1 (in), 17 CLK1 (in), 18 VCC (power), 19 ~{EN} (in), 20 VCC (power)

## MC100LVEP14DTR2
designator U?
Low-Voltage 1:5 Differential LVECL/LVPECL/LVEPECL/HSTL Clock Driver; Published: 15-Apr-2002; LatestRevisionDate: 12-Dec-2006; LatestRevisionNote: IPC-7351 Footprint Added.; DatasheetVersion: Jan-2000; PackageVersion: Mar-2000; PackageReference: 948E-02; Publisher: Altium Limited; PackageDescription: 20-Pin Thin Small Outline Package 0.65 mm Pitch; ComponentLink1Description: Manufacturer Link; ComponentLink1URL: http://www.onsemi.com/; ComponentLink2Description: Datasheet; ComponentLink2URL: http://www.onsemi.com/pub/Collateral/MC100LVEP14-D.PDF
footprint 948E-02_N (TSOP, 20-Leads, Body 6.5x4.4mm, Pitch 0.65mm, IPC Medium Density)
footprint 948E-02_L (TSOP, 20-Leads, Body 6.5x4.4mm, Pitch 0.65mm, IPC High Density)
footprint 948E-02_M (TSOP, 20-Leads, Body 6.5x4.4mm, Pitch 0.65mm, IPC Low Density)
pins: 1 Q0 (oe), 2 ~{Q}0 (oe), 3 Q1 (oe), 4 ~{Q}1 (oe), 5 Q2 (oe), 6 ~{Q}2 (oe), 7 Q3 (oe), 8 ~{Q}3 (oe), 9 Q4 (oe), 10 ~{Q}4 (oe), 11 VEE (power), 12 SEL (in), 13 CLK0 (in), 14 CLK0 (in), 15 VBB (power), 16 CLK1 (in), 17 CLK1 (in), 18 VCC (power), 19 ~{EN} (in), 20 VCC (power)

## MC100LVEP111FA
designator U?
Low-Voltage 1:10 Differential LVECL/LVPECL/LVEPECL/HSTL Clock Driver; Published: 15-Apr-2002; LatestRevisionDate: 13-Apr-2006; LatestRevisionNote: IPC-7351 Footprint Added.; DatasheetVersion: Mar-2000; PackageVersion: May-2000; PackageReference: 873A-02; Publisher: Altium Limited; PackageDescription: 32-Pin Thin Quad Flat Pack 0.8 mm Pitch; ComponentLink1Description: Manufacturer Link; ComponentLink1URL: http://www.onsemi.com/; ComponentLink2Description: Datasheet; ComponentLink2URL: http://www.onsemi.com/pub/Collateral/MC100LVEP111-D.PDF
footprint 873A-02_N (Thin QFP, 32-Leads, Body 7x7mm, Pitch 0.8mm, IPC Medium Density)
footprint 873A-02_L (Thin QFP, 32-Leads, Body 7x7mm, Pitch 0.8mm, IPC High Density)
footprint 873A-02_M (Thin QFP, 32-Leads, Body 7x7mm, Pitch 0.8mm, IPC Low Density)
pins: 1 VCC (power), 2 CLKSEL (in), 3 CLK0 (in), 4 CLK0 (in), 5 VBB (power), 6 CLK1 (in), 7 CLK1 (in), 8 VEE (power), 9 VCC (power), 10 ~{Q}9 (oe), 11 Q9 (oe), 12 ~{Q}8 (oe), 13 Q8 (oe), 14 ~{Q}7 (oe), 15 Q7 (oe), 16 VCC (power), 17 ~{Q}6 (oe), 18 Q6 (oe), 19 ~{Q}5 (oe), 20 Q5 (oe), 21 ~{Q}4 (oe), 22 Q4 (oe), 23 ~{Q}3 (oe), 24 Q3 (oe), 25 VCC (power), 26 ~{Q}2 (oe), 27 Q2 (oe), 28 ~{Q}1 (oe), 29 Q1 (oe), 30 ~{Q}0 (oe), 31 Q0 (oe), 32 VCC (power)

## MC100LVEP111FAR2
designator U?
Low-Voltage 1:10 Differential LVECL/LVPECL/LVEPECL/HSTL Clock Driver; Published: 15-Apr-2002; LatestRevisionDate: 13-Apr-2006; LatestRevisionNote: IPC-7351 Footprint Added.; DatasheetVersion: Mar-2000; PackageVersion: May-2000; PackageReference: 873A-02; Publisher: Altium Limited; PackageDescription: 32-Pin Thin Quad Flat Pack 0.8 mm Pitch; ComponentLink1Description: Manufacturer Link; ComponentLink1URL: http://www.onsemi.com/; ComponentLink2Description: Datasheet; ComponentLink2URL: http://www.onsemi.com/pub/Collateral/MC100LVEP111-D.PDF
footprint 873A-02_N (Thin QFP, 32-Leads, Body 7x7mm, Pitch 0.8mm, IPC Medium Density)
footprint 873A-02_L (Thin QFP, 32-Leads, Body 7x7mm, Pitch 0.8mm, IPC High Density)
footprint 873A-02_M (Thin QFP, 32-Leads, Body 7x7mm, Pitch 0.8mm, IPC Low Density)
pins: 1 VCC (power), 2 CLKSEL (in), 3 CLK0 (in), 4 CLK0 (in), 5 VBB (power), 6 CLK1 (in), 7 CLK1 (in), 8 VEE (power), 9 VCC (power), 10 ~{Q}9 (oe), 11 Q9 (oe), 12 ~{Q}8 (oe), 13 Q8 (oe), 14 ~{Q}7 (oe), 15 Q7 (oe), 16 VCC (power), 17 ~{Q}6 (oe), 18 Q6 (oe), 19 ~{Q}5 (oe), 20 Q5 (oe), 21 ~{Q}4 (oe), 22 Q4 (oe), 23 ~{Q}3 (oe), 24 Q3 (oe), 25 VCC (power), 26 ~{Q}2 (oe), 27 Q2 (oe), 28 ~{Q}1 (oe), 29 Q1 (oe), 30 ~{Q}0 (oe), 31 Q0 (oe), 32 VCC (power)

## MC100LVEP210FA
designator U?
Low-Voltage 1:5 Dual Differential LVECL/LVPECL/LVEPECL/HSTL Clock Driver; Published: 15-Apr-2002; LatestRevisionDate: 13-Apr-2006; LatestRevisionNote: IPC-7351 Footprint Added.; DatasheetVersion: Mar-2000; PackageVersion: May-2000; PackageReference: 873A-02; Publisher: Altium Limited; PackageDescription: 32-Pin Thin Quad Flat Pack 0.8 mm Pitch; ComponentLink1Description: Manufacturer Link; ComponentLink1URL: http://www.onsemi.com/; ComponentLink2Description: Datasheet; ComponentLink2URL: http://www.onsemi.com/pub/Collateral/MC100LVEP210-D.PDF
footprint 873A-02_N (Thin QFP, 32-Leads, Body 7x7mm, Pitch 0.8mm, IPC Medium Density)
footprint 873A-02_L (Thin QFP, 32-Leads, Body 7x7mm, Pitch 0.8mm, IPC High Density)
footprint 873A-02_M (Thin QFP, 32-Leads, Body 7x7mm, Pitch 0.8mm, IPC Low Density)
pins: 1 VCC (power), 2 NC, 3 CLKA (in), 4 CLKA (in), 5 VBB (power), 6 CLKB (in), 7 CLKB (in), 8 VEE (power), 9 VCC (power), 10 ~{Q}B4 (oe), 11 QB4 (oe), 12 ~{Q}B3 (oe), 13 QB3 (oe), 14 ~{Q}B2 (oe), 15 QB2 (oe), 16 VCC (power), 17 ~{Q}B1 (oe), 18 QB1 (oe), 19 ~{Q}B0 (oe), 20 QB0 (oe), 21 ~{Q}A4 (oe), 22 QA4 (oe), 23 ~{Q}A4 (oe), 24 QA3 (oe), 25 VCC (power), 26 ~{Q}A2 (oe), 27 QA2 (oe), 28 ~{Q}A1 (oe), 29 QA1 (oe), 30 ~{Q}A0 (oe), 31 QA0 (oe), 32 VCC (power)

## MC100LVEP210FAR2
designator U?
Low-Voltage 1:5 Dual Differential LVECL/LVPECL/LVEPECL/HSTL Clock Driver; Published: 15-Apr-2002; LatestRevisionDate: 13-Apr-2006; LatestRevisionNote: IPC-7351 Footprint Added.; DatasheetVersion: Mar-2000; PackageVersion: May-2000; PackageReference: 873A-02; Publisher: Altium Limited; PackageDescription: 32-Pin Thin Quad Flat Pack 0.8 mm Pitch; ComponentLink1Description: Manufacturer Link; ComponentLink1URL: http://www.onsemi.com/; ComponentLink2Description: Datasheet; ComponentLink2URL: http://www.onsemi.com/pub/Collateral/MC100LVEP210-D.PDF
footprint 873A-02_N (Thin QFP, 32-Leads, Body 7x7mm, Pitch 0.8mm, IPC Medium Density)
footprint 873A-02_L (Thin QFP, 32-Leads, Body 7x7mm, Pitch 0.8mm, IPC High Density)
footprint 873A-02_M (Thin QFP, 32-Leads, Body 7x7mm, Pitch 0.8mm, IPC Low Density)
pins: 1 VCC (power), 2 NC, 3 CLKA (in), 4 CLKA (in), 5 VBB (power), 6 CLKB (in), 7 CLKB (in), 8 VEE (power), 9 VCC (power), 10 ~{Q}B4 (oe), 11 QB4 (oe), 12 ~{Q}B3 (oe), 13 QB3 (oe), 14 ~{Q}B2 (oe), 15 QB2 (oe), 16 VCC (power), 17 ~{Q}B1 (oe), 18 QB1 (oe), 19 ~{Q}B0 (oe), 20 QB0 (oe), 21 ~{Q}A4 (oe), 22 QA4 (oe), 23 ~{Q}A4 (oe), 24 QA3 (oe), 25 VCC (power), 26 ~{Q}A2 (oe), 27 QA2 (oe), 28 ~{Q}A1 (oe), 29 QA1 (oe), 30 ~{Q}A0 (oe), 31 QA0 (oe), 32 VCC (power)